# Altium schematic symbol library elv10-15-2p.SchLib: 1 symbol
Pins are listed as number, name and electrical type; pins without a type are passive.

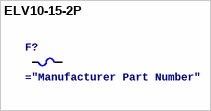
[diagram p0: symbol ELV10-15-2P]

## ELV10-15-2P
designator F?
15A 200 VDC Fuse Cartridge Through Hole
pins: 1, 2